# Altium footprint library TEN_5.PcbLib: 1 footprints
Each footprint in its own frame and in the unit in brackets; x right, y up, seen from the top. Pads: shape width x height; smd on the part's side, far side on the other; paste and mask are expansions set on the pad; w line width, h text height; cw(c..) or ccw(c..) is an arc to the next point about the centre after c.
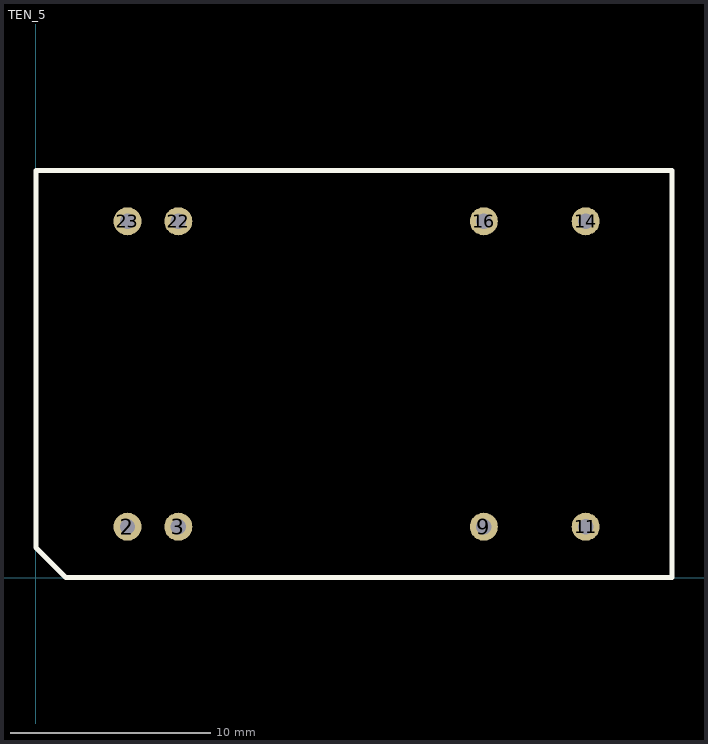
[diagram p0: the footprint, top view; thin cyan lines are the x and y axes]

## TEN_5 [mil]
pads (8):
  round 55 hole 30: 2(180,100) 3(280,100) 9(880,100) 11(1080,100) 14(1080,700) 16(880,700) 22(280,700) 23(180,700)
Top Overlay:
  lines w10: 0,59.06 0,800 1250,800 1250,0 59.06,0 0,59.06
Mechanical 15:
  text "'.Designator'" at 165.35,358.92 h78.74
3D body "TEN_5.STEP": height 405.51, standoff -161.42, extent 0,0 1250,800